# Altium footprint library STL.PcbLib: 40 footprints (part 1 of 3)
Each footprint in its own frame and in the unit in brackets; x right, y up, seen from the top. Pads: shape width x height; smd on the part's side, far side on the other; paste and mask are expansions set on the pad; w line width, h text height; cw(c..) or ccw(c..) is an arc to the next point about the centre after c.
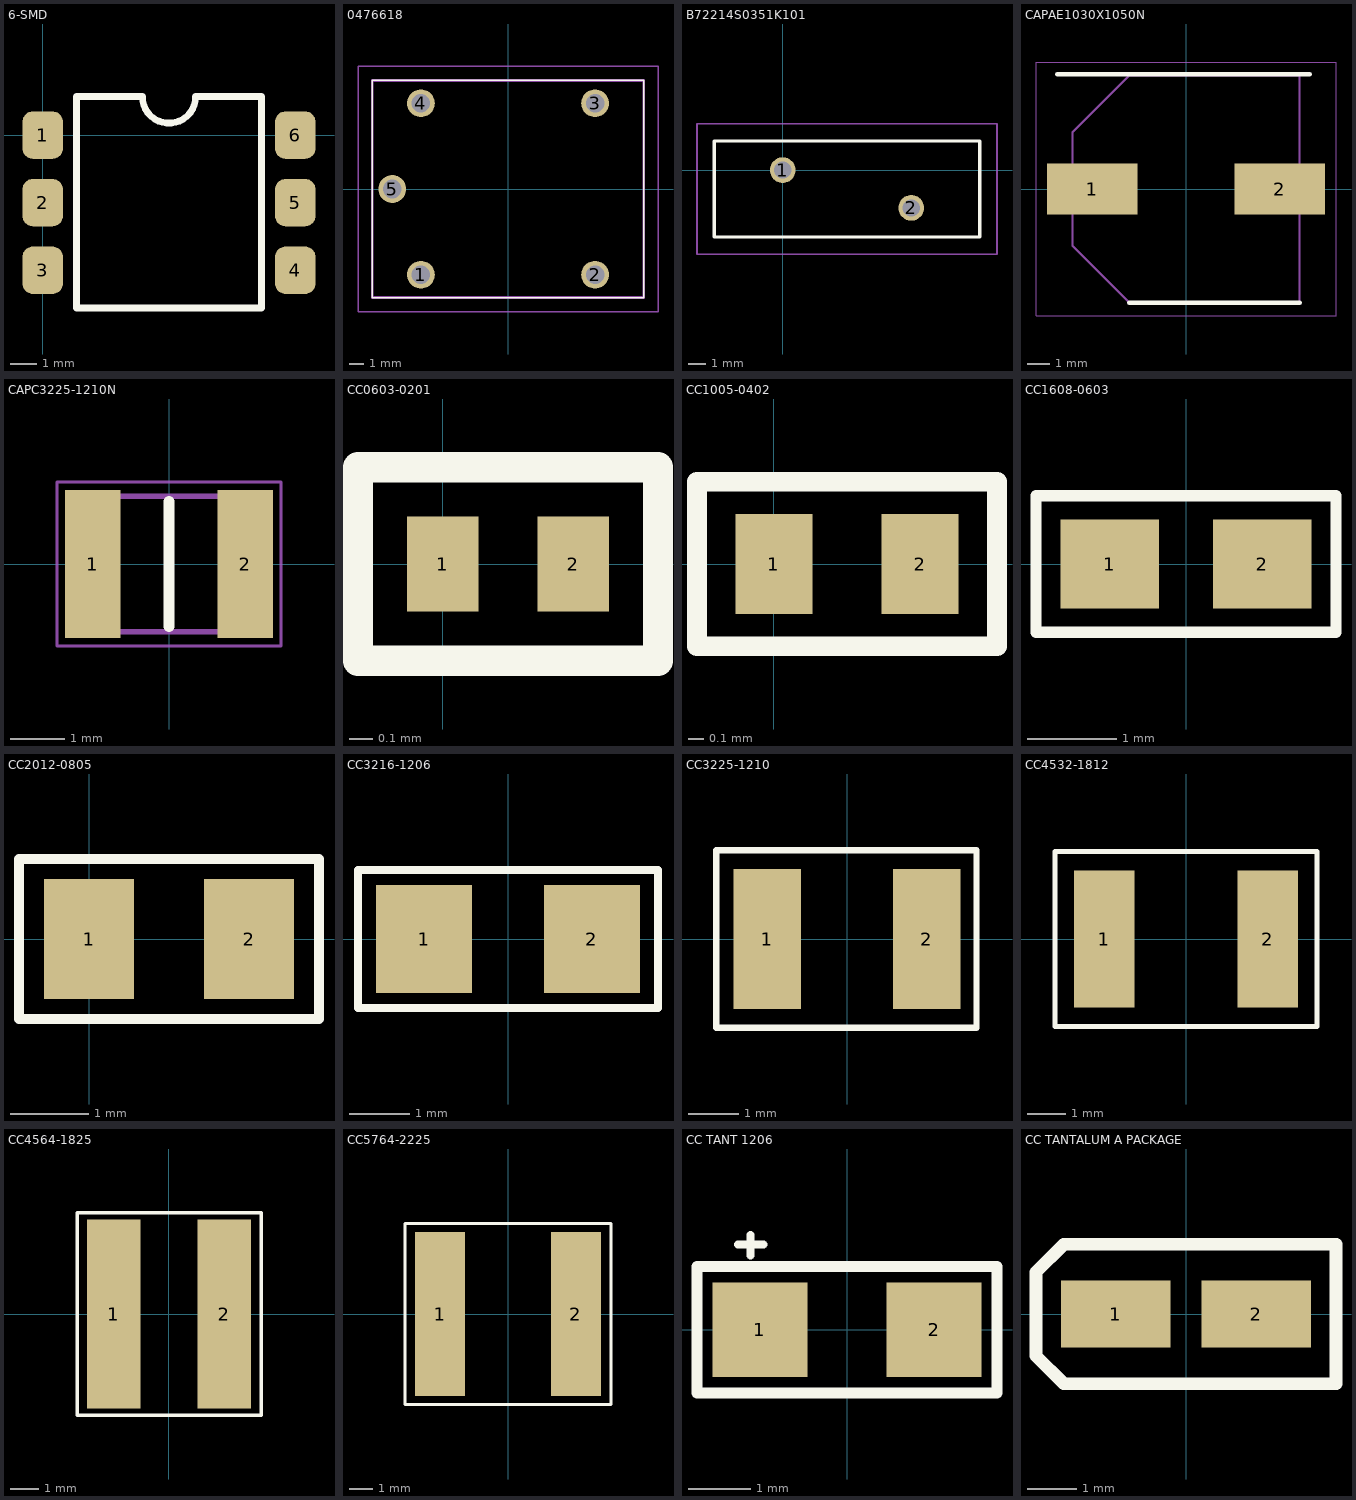
[diagram p0: the footprints below, top view; thin cyan lines are the x and y axes]

## 6-SMD [mm]
height 3.5
pads (6):
  rrect50% 1.52x1.78 smd: 1(0,0) 2(0,-2.54) 3(0,-5.08) 4(9.5,-5.08) 5(9.5,-2.54) 6(9.5,0)
Top Overlay:
  lines w0.254: 1.27,-6.502 8.23,-6.502 8.23,1.448 5.75,1.448 cw(c4.75,1.448) 3.75,1.448 1.27,1.448 1.27,-6.502
3D body "User Library-6-SMD.step": height 3.61, standoff 0, extent -0.33,-6.185 9.83,1.105

## 0476618 [mm]
pads (5):
  round 1.95 hole 1.3: 1(-6.1,-6) 2(6.1,-6) 3(6.1,6) 4(-6.1,6) 5(-8.1,0)
Top Overlay:
  lines w0.1: -9.5,-7.6 9.5,-7.6 9.5,7.6 -9.5,7.6 -9.5,-7.6
Mechanical 13:
  lines w0.2: -9.5,-7.6 9.5,-7.6 9.5,7.6 -9.5,7.6 -9.5,-7.6
Mechanical 15:
  lines w0.1: -10.5,-8.6 10.5,-8.6 10.5,8.6 -10.5,8.6 -10.5,-8.6
3D body "0476618.stp": height 15.1, standoff -5, extent -9.5,-7.6 9.5,7.6

## B72214S0351K101 [mm]
pads (2):
  round 1.5 hole 1: 1(0,0) 2(7.5,-2.2)
Top Overlay:
  lines w0.2: -4,-3.9 11.5,-3.9 11.5,1.7 -4,1.7 -4,-3.9
Mechanical 13:
  lines w0.1: -4,-3.9 11.5,-3.9 11.5,1.7 -4,1.7 -4,-3.9
Mechanical 15:
  lines w0.1: -5,-4.9 12.5,-4.9 12.5,2.7 -5,2.7 -5,-4.9
3D body "B72214S0351K101.stp": height 18.6, standoff -5, extent -4,-3.9 11.5,1.7

## CAPAE1030X1050N [mm]
pads (2):
  rect 4.1x2.3 smd: 1(-4.25,0) 2(4.25,0)
Top Overlay:
  lines w0.2: -5.842,5.207 5.608,5.207 ; -2.575,-5.15 5.15,-5.15
Mechanical 13:
  lines w0.1: -5.15,-2.575 -2.575,-5.15 5.15,-5.15 5.15,5.15 -2.575,5.15 -5.15,2.575 -5.15,-2.575
Mechanical 15:
  lines w0.05: -6.8,-5.75 -6.8,5.75 6.8,5.75 6.8,-5.75 -6.8,-5.75
3D body "VE-102M1CTR-1010.stp": height 10.5, standoff 0, extent -5.6,-5.25 5.6,5.25

## CAPC3225-1210N [mm]
pads (2):
  rect 1.02x2.72 smd: 1(-1.4,0) 2(1.4,0)
Top Overlay:
  lines w0.2: 0,-1.15 0,1.15
Mechanical 13:
  lines w0.1: -1.6,-1.25 1.6,-1.25 1.6,1.25 -1.6,1.25 -1.6,-1.25
Mechanical 15:
  lines w0.05: -2.06,-1.51 2.06,-1.51 2.06,1.51 -2.06,1.51 -2.06,-1.51
3D body "C1210C106M6PACTU.stp": height 2.1, standoff 0, extent -1.6,-1.25 1.6,1.25

## CC0603-0201 [mm] "Chip Capacitor; Body 0.024\" L x 0.012\" W (0.60mm x 0.30mm)"
height 0.33
pads (2):
  rect 0.3x0.4 smd: 1(0,0) 2(0.55,0)
Top Overlay:
  lines w0.127: -0.356,-0.406 0.906,-0.406 0.906,0.406 -0.356,0.406 -0.356,-0.406
3D body "cc-0201.step": height 0.15, standoff -0.15, extent -0.046,-0.15 0.554,0.15

## CC1005-0402 [mm] "Chip Capacitor; Body 0.039\" L x 0.020\" W (1.00mm x 0.50mm)"
height 1.35
pads (2):
  rect 0.5x0.65 smd: 1(0,0) 2(0.95,0)
Top Overlay:
  lines w0.127: -0.5,-0.533 -0.5,0.533 1.45,0.533 1.45,-0.533 -0.5,-0.533
3D body "0402 SMD CAPACITOR.step": height 0.49, standoff -0.01, extent -0.025,-0.25 0.975,0.25

## CC1608-0603 [mm] "Chip Capacitor; Body 1.6 x 0.8 mm (LxW typ)"
height 1.35
pads (2):
  rect 1.1x1 smd: 1(-0.85,0) 2(0.85,0)
Top Overlay:
  lines w0.127: -1.676,-0.762 1.676,-0.762 1.676,0.762 -1.676,0.762 -1.676,-0.762
3D body "User Library-SMD CAPACITOR.step": height 0.8, standoff 0, extent -0.8,-0.4 0.8,0.4

## CC2012-0805 [mil] "Chip Capacitor"
pads (2):
  rect 45x60 smd: 1(0,0) 2(80,0)
Top Overlay:
  lines w5: -35,-40 -35,40 115,40 115,-40 -35,-40
3D body "0805.step": height 23.62, standoff 0, extent 0.63,-24.6 79.37,24.6

## CC3216-1206 [mm] "Chip Capacitor; Body 3.2 x 1.6 mm (LxW typ)"
height 1.35
pads (2):
  rect 1.6x1.8 smd: 1(-1.4,0) 2(1.4,0)
Top Overlay:
  lines w0.127: -2.5,-1.15 -2.5,1.15 2.5,1.15 2.5,-1.15 -2.5,-1.15
3D body "3216.step": height 0.79, standoff 0.01, extent -1.6,-0.8 1.6,0.8

## CC3225-1210 [mm] "Chip Capacitor; Body 1.6 x 0.8 mm (LxW typ)"
pads (2):
  rect 1.35x2.8 smd: 1(-1.6,0) 2(1.6,0)
Top Overlay:
  lines w0.127: -2.616,-1.778 2.591,-1.778 2.591,1.778 -2.616,1.778 -2.616,-1.778
3D body "User Library-SMD CAPACITOR.step": height 0.77, standoff -0.01, extent -1.6,-1.25 1.6,1.25

## CC4532-1812 [mm] "Chip Capacitor"
pads (2):
  rect 1.6x3.6 smd: 1(-2.15,0) 2(2.15,0)
Top Overlay:
  lines w0.127: -3.45,-2.3 3.45,-2.3 3.45,2.3 -3.45,2.3 -3.45,-2.3
3D body "1812.step": height 1, standoff 0, extent -2.25,-1.6 2.25,1.6

## CC4564-1825 [mil] "Chip Capacitor"
pads (2):
  rect 75x265 smd: 1(-77.5,0) 2(77.5,0)
Top Overlay:
  lines w5: -128.68,-141.73 129.19,-141.73 129.19,141.73 -128.68,141.73 -128.68,-141.73
3D body "User Library-CAPC4564X15.STEP": height 59.06, standoff 0, extent -88.58,-125.98 88.59,125.99

## CC5764-2225 [mm] "Chip Capacitor"
pads (2):
  rect 2.1x6.9 smd: 1(-2.85,0) 2(2.85,0)
Top Overlay:
  lines w0.127: -4.318,-3.81 4.318,-3.81 4.318,3.81 -4.318,3.81 -4.318,-3.81
3D body "2225.step": height 1, standoff 0, extent -2.8,-3.15 2.8,3.15

## CC TANT 1206 [mil]
height 4
pads (2):
  rect 60x60 smd: 1(-55.12,0) 2(55.12,0)
Top Overlay:
  lines w5: -69,54 -53,54 ; -61,47 -61,60
  lines w7: -95,-40 -95,40 95,40 95,-40 -95,-40
3D body "User Library-Tantalum Cap Case A.step": height 63, standoff -0.03, extent -62.99,-31.5 62.99,31.5

## CC TANTALUM A PACKAGE [mm] "CAP TANT 1206 SMT"
height 3.2
pads (2):
  rect 2.2x1.35 smd: 1(-1.41,0) 2(1.41,0)
Top Overlay:
  lines w0.254: -3.01,-0.84 -2.45,-1.4 3.01,-1.4 3.01,1.4 -2.45,1.4 -3.01,0.84 -3.01,-0.84
3D body "tant.step": height 1.8, standoff -0.04, extent -2.398,-0.902 2.398,0.902